# EAGLE library part RJ45 (library Header and Connector)
RJ45 8P8C Connector Created by: Wai Weng
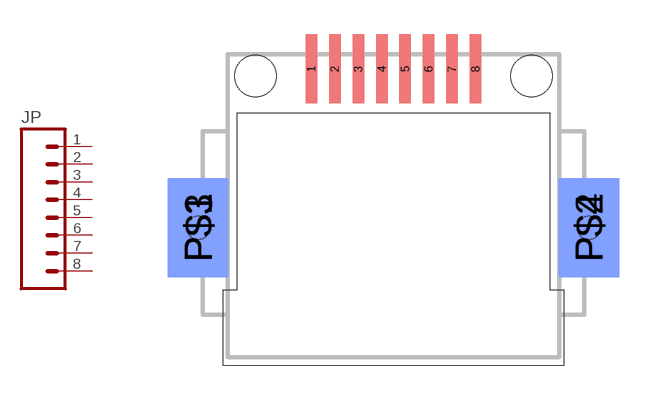
[diagram p38: symbol with the pads of RJ45; footprint RJ45]

Designator prefix JP

## RJ45 (DESC: RJ45 8P8C RA; VALUE: 8 Ways)  [RJ45]
1  1  pas
2  2  pas
3  3  pas
4  4  pas
5  5  pas
6  6  pas
7  7  pas
8  8  pas

## Footprint RJ45 (pad centres in mm)
RJ45 8P8C Connector Created by: Wai Weng
smd 0.5 x 3: 1 -3.57,6.9; 2 -2.55,6.9; 3 -1.53,6.9; 4 -0.51,6.9; 5 0.51,6.9; 6 1.53,6.9; 7 2.55,6.9; 8 3.57,6.9
smd 2.62 x 4.3: P$1 -8.5,0; P$2 8.5,0
smd 2.62 x 4.3 bottom: P$3 -8.5,0; P$4 8.5,0
hole 1 at -8.5,0
hole 1 at 8.5,0
hole 1.8 at -6,6.6
hole 1.8 at 6,6.6